# Altium footprint library AltTab_PCB_Chip.PcbLib: 105 footprints (part 7 of 7)
Each footprint in its own frame and in the unit in brackets; x right, y up, seen from the top. Pads: shape width x height; smd on the part's side, far side on the other; paste and mask are expansions set on the pad; w line width, h text height; cw(c..) or ccw(c..) is an arc to the next point about the centre after c.
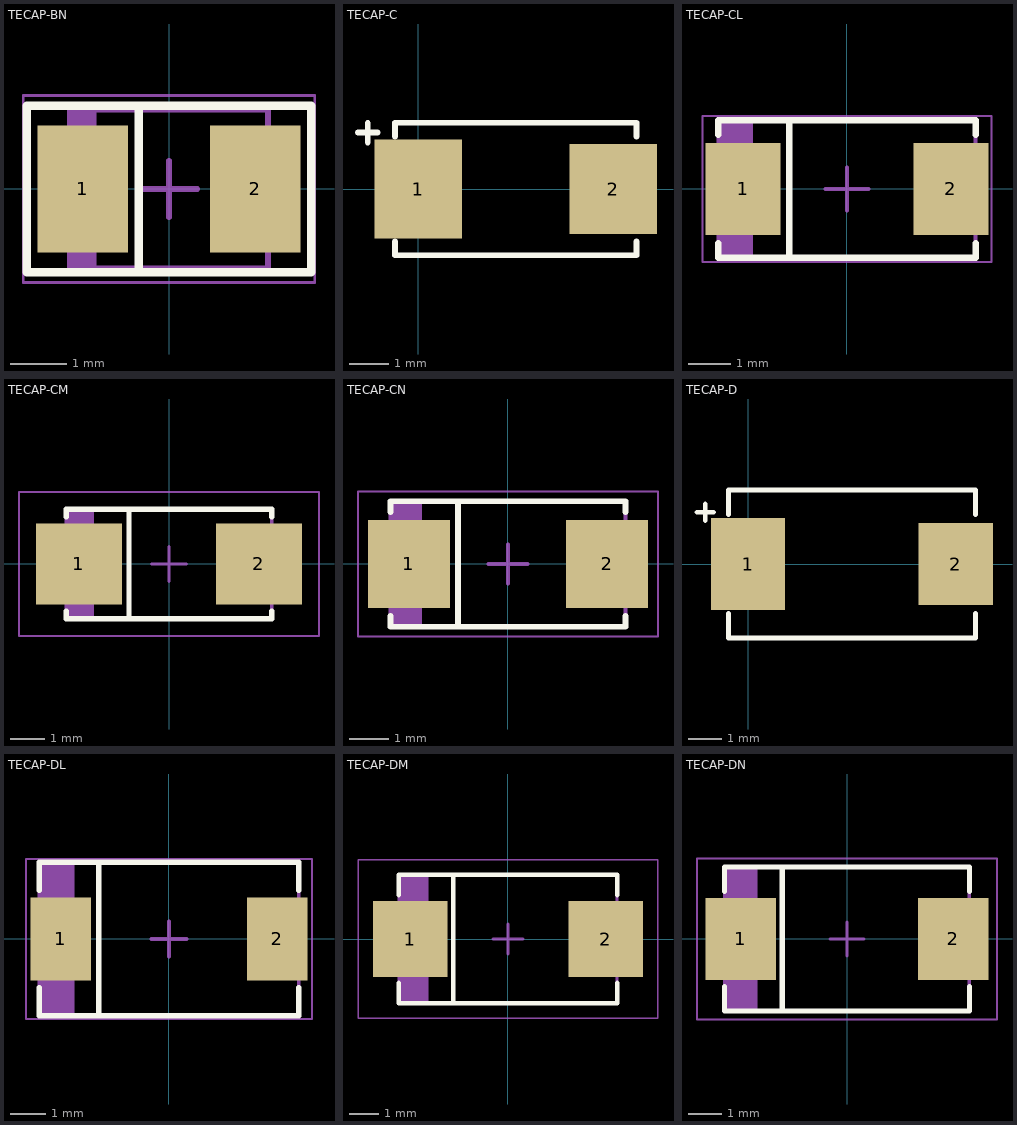
[diagram p6: the footprints below, top view; thin cyan lines are the x and y axes]

## TECAP-BN [mm] "Molded Capacitor, 2-Leads, Body 3,50x2,80mm, IPC Medium Density"
height 1.9
pads (2):
  rect 1.6x2.25 smd: 1(-1.525,0) 2(1.525,0)
Top Overlay:
  lines w0.152: -0.762,1.473 -0.533,1.473 -0.533,-1.397 ; -2.515,-1.473 -2.515,-0.864 -2.515,1.473 -1.27,1.473 2.515,1.473 2.515,1.295 2.515,-1.473 1.676,-1.473 -2.515,-1.473
Assembly Top:
  rectangle: -1.75,-1.4 -1.279,1.4
  lines w0.1: -1.75,-1.4 -1.75,1.4 1.75,1.4 1.75,-1.4 -1.75,-1.4
Courtyard Top:
  lines w0.05: -2.575,-1.65 -2.575,1.65 2.575,1.65 2.575,-1.65 -2.575,-1.65
  lines w0.1: -0.5,0 0.5,0 ; 0,-0.5 0,0.5
3D body "CAPMP3528X19N.step": height 1.9, standoff 0, extent -1.97,-1.4 1.97,1.4

## TECAP-C [mm]
pads (2):
  rect 2.25x2.54 smd mask+0.05: 1(0,0)
  rect 2.25x2.3 smd mask+0.05: 2(5,0)
Top Overlay:
  lines w0.15: -1.551,1.448 -1.051,1.448 ; -1.301,1.198 -1.301,1.698 ; -0.6,-1.35 -0.6,-1.7 5.6,-1.7 5.6,-1.35 ; -0.6,1.35 -0.6,1.7 5.6,1.7 5.6,1.35
3D body "TECAP C.step": height 2.5, standoff 0, extent -0.511,-1.6 5.489,1.6

## TECAP-CL [mm] "Molded Capacitor, 2-Leads, Body 6,00x3,20mm, IPC High Density"
height 2.6
pads (2):
  rect 1.75x2.15 smd: 1(-2.425,0) 2(2.425,0)
Top Overlay:
  lines w0.152: -3,-1.27 -3,-1.6 3,-1.6 3,-1.27 ; -3,1.27 -3,1.6 3,1.6 3,1.27 ; -1.676,-1.6 -1.346,-1.6 -1.346,1.6
Assembly Top:
  rectangle: -3,-1.6 -2.193,1.6
  lines w0.1: -3,-1.6 3,-1.6 3,1.6 -3,1.6 -3,-1.6
Courtyard Top:
  lines w0.05: -3.375,-1.7 3.375,-1.7 3.375,1.7 -3.375,1.7 -3.375,-1.7
  lines w0.1: -0.5,0 0.5,0 ; 0,-0.5 0,0.5
3D body "CAPMP6032X26L.step": height 2.6, standoff 0, extent -3.22,-1.6 3.22,1.6

## TECAP-CM [mm] "Molded Capacitor, 2-Leads, Body 6,00x3,20mm, IPC Low Density"
height 2.6
pads (2):
  rect 2.5x2.35 smd: 1(-2.625,0) 2(2.625,0)
Top Overlay:
  lines w0.152: -3,1.6 3,1.6 2.997,1.6 2.997,1.372 ; -2.997,-1.372 -2.997,-1.6 -3,-1.6 2.997,-1.6 2.997,-1.372 ; -2.997,1.372 -2.997,1.6 -2.921,1.6 ; -1.168,-1.6 -1.168,1.6
Assembly Top:
  rectangle: -3,-1.6 -2.193,1.6
  lines w0.1: -3,-1.6 -3,1.6 3,1.6 3,-1.6 -3,-1.6
Courtyard Top:
  lines w0.05: -4.375,-2.1 -4.375,2.1 4.375,2.1 4.375,-2.1 -4.375,-2.1
  lines w0.1: -0.5,0 0.5,0 ; 0,-0.5 0,0.5
3D body "CAPMP6032X26M.step": height 2.6, standoff 0, extent -3.22,-1.6 3.22,1.6

## TECAP-CN [mm] "Molded Capacitor, 2-Leads, Body 6,00x3,20mm, IPC Medium Density"
height 2.6
pads (2):
  rect 2.1x2.25 smd: 1(-2.525,0) 2(2.525,0)
Top Overlay:
  lines w0.152: -2.997,-1.321 -2.997,-1.6 3,-1.6 2.997,-1.6 2.997,-1.321 ; -2.997,1.321 -2.997,1.6 3,1.6 2.997,1.6 2.997,1.321 ; -1.473,-1.6 -1.27,-1.6 -1.27,1.6
Assembly Top:
  rectangle: -3,-1.6 -2.193,1.6
  lines w0.1: -3,-1.6 -3,1.6 3,1.6 3,-1.6 -3,-1.6
Courtyard Top:
  lines w0.05: -3.825,-1.85 -3.825,1.85 3.825,1.85 3.825,-1.85 -3.825,-1.85
  lines w0.1: -0.5,0 0.5,0 ; 0,-0.5 0,0.5
3D body "CAPMP6032X26N.step": height 2.6, standoff 0, extent -3.22,-1.6 3.22,1.6

## TECAP-D [mm]
pads (2):
  rect 2.25x2.794 smd mask+0.05: 1(0,0)
  rect 2.25x2.5 smd mask+0.05: 2(6.3,0)
Top Overlay:
  lines w0.15: -1.552,1.571 -1.052,1.571 ; -1.302,1.321 -1.302,1.821 ; -0.6,-1.5 -0.6,-2.25 6.9,-2.25 6.9,-1.5 ; -0.6,1.5 -0.6,2.25 6.9,2.25 6.9,1.5
3D body "TECAP D.step": height 2.8, standoff 0, extent -0.475,-2.15 6.825,2.15

## TECAP-DL [mm] "Molded Capacitor, 2-Leads, Body 7,30x4,30mm, IPC High Density"
height 2.8
pads (2):
  rect 1.7x2.35 smd: 1(-3.05,0) 2(3.05,0)
Top Overlay:
  lines w0.152: -3.658,-1.372 -3.658,-2.159 3.65,-2.159 3.65,-1.372 ; -3.658,1.372 -3.658,2.159 3.65,2.159 3.65,1.372 ; -1.981,-2.159 -1.981,-2.057 -1.981,2.159 -1.956,2.159
Assembly Top:
  rectangle: -3.65,-2.15 -2.668,2.15
  lines w0.1: -3.65,-2.15 3.65,-2.15 3.65,2.15 -3.65,2.15 -3.65,-2.15
Courtyard Top:
  lines w0.05: -4.025,-2.25 4.025,-2.25 4.025,2.25 -4.025,2.25 -4.025,-2.25
  lines w0.1: -0.5,0 0.5,0 ; 0,-0.5 0,0.5
3D body "CAPMP7343X28L.step": height 2.8, standoff 0, extent -3.87,-2.15 3.87,2.15

## TECAP-DM [mm] "Molded Capacitor, 2-Leads, Body 7,30x4,30mm, IPC Low Density"
height 2.8
pads (2):
  rect 2.5x2.55 smd: 1(-3.275,0) 2(3.275,0)
Top Overlay:
  lines w0.152: -3.658,-1.473 -3.658,-2.159 3.658,-2.159 3.658,-1.473 ; -3.658,1.473 -3.658,2.159 3.658,2.159 3.658,1.473 ; -1.905,2.159 -1.829,2.159 -1.829,-2.159
Assembly Top:
  rectangle: -3.65,-2.15 -2.668,2.15
  lines w0.1: -3.65,-2.15 3.65,-2.15 3.65,2.15 -3.65,2.15 -3.65,-2.15
Courtyard Top:
  lines w0.05: -5.025,-2.65 5.025,-2.65 5.025,2.65 -5.025,2.65 -5.025,-2.65
  lines w0.1: -0.5,0 0.5,0 ; 0,-0.5 0,0.5
3D body "CAPMP7343X28M.step": height 2.8, standoff 0, extent -3.87,-2.15 3.87,2.15

## TECAP-DN [mm] "Molded Capacitor, 2-Leads, Body 7,30x4,30mm, IPC Medium Density"
height 2.8
pads (2):
  rect 2.1x2.45 smd: 1(-3.175,0) 2(3.175,0)
Top Overlay:
  lines w0.152: -3.658,-1.422 -3.658,-2.15 3.658,-2.15 3.658,-1.422 ; -3.658,1.422 -3.658,2.15 3.658,2.15 3.658,1.422 ; -1.93,-2.134 -1.93,0.94 -1.93,2.134
Assembly Top:
  rectangle: -3.65,-2.15 -2.668,2.15
  lines w0.1: -3.65,-2.15 -3.65,2.15 3.65,2.15 3.65,-2.15 -3.65,-2.15
Courtyard Top:
  lines w0.05: -4.475,-2.4 -4.475,2.4 4.475,2.4 4.475,-2.4 -4.475,-2.4
  lines w0.1: -0.5,0 0.5,0 ; 0,-0.5 0,0.5
3D body "CAPMP7343X28N.step": height 2.8, standoff 0, extent -3.87,-2.15 3.87,2.15